# EAGLE library part MAX14931 (library MicroSemi_PoE_PSE)
SPI isolator
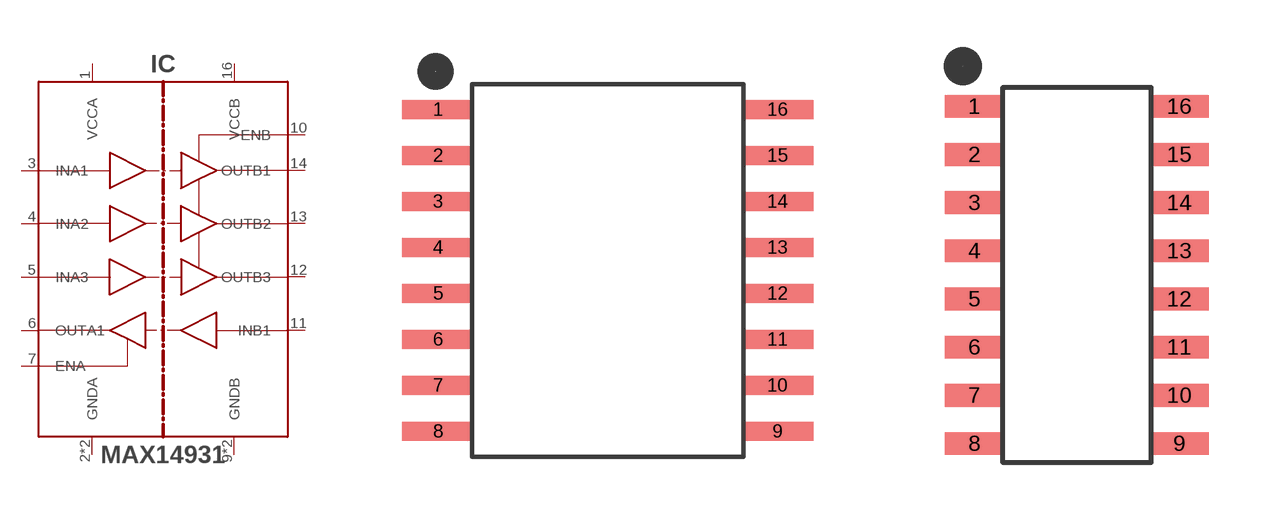
[diagram p4: symbol with the pads of SOIC-W-16; footprints SOIC-W-16, SOIC-N-16]

Designator prefix IC

## MAX14931WE  [SOIC-W-16]
1  VCCA  pwr
2  GNDA  pwr
3  INA1  in
4  INA2  in
5  INA3  in
6  OUTA1  out
7  ENA  in
8  GNDA  pwr
9  GNDB  pwr
10  ENB  in
11  INB1  in
12  OUTB3  out
13  OUTB2  out
14  OUTB1  out
15  GNDB  pwr
16  VCCB  pwr

## MAX14931SE  [SOIC-N-16]
Pads as for SOIC-W-16

## Footprint SOIC-W-16 (pad centres in mm)
smd 1.98 x 0.53: 1 -4.685,4.445; 2 -4.685,3.175; 3 -4.685,1.905; 4 -4.685,0.635; 5 -4.685,-0.635; 6 -4.685,-1.905; 7 -4.685,-3.175; 8 -4.685,-4.445; 9 4.685,-4.445; 10 4.685,-3.175; 11 4.685,-1.905; 12 4.685,-0.635; 13 4.685,0.635; 14 4.685,1.905; 15 4.685,3.175; 16 4.685,4.445

## Footprint SOIC-N-16 (pad centres in mm)
smd 1.55 x 0.6: 1 -2.7,4.445; 2 -2.7,3.175; 3 -2.7,1.905; 4 -2.7,0.635; 5 -2.7,-0.635; 6 -2.7,-1.905; 7 -2.7,-3.175; 8 -2.7,-4.445; 9 2.7,-4.445; 10 2.7,-3.175; 11 2.7,-1.905; 12 2.7,-0.635; 13 2.7,0.635; 14 2.7,1.905; 15 2.7,3.175; 16 2.7,4.445